# EAGLE library part MPU-9250 (library MPU-9250)
Check availability <https://pricing.snapeda.com/parts/MPU-9250/TDK%20InvenSense/view-part?ref=eda>
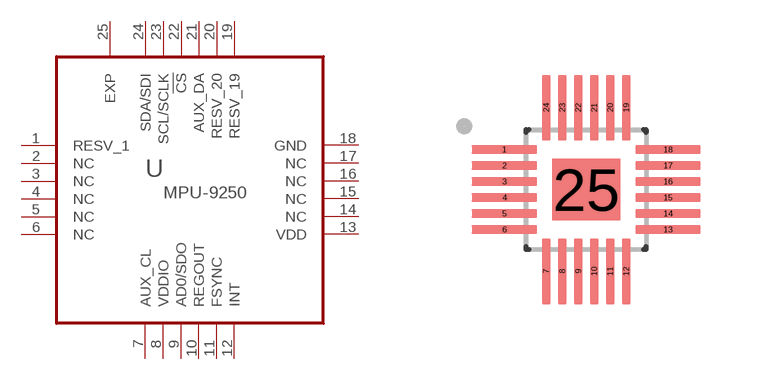
[diagram p0: symbol with the pads of QFN40P300X300X105-25N; footprint QFN40P300X300X105-25N]

Designator prefix U

## MPU-9250 (AVAILABILITY: In Stock; DESCRIPTION: Accelerometer, Gyroscope, Magnetometer, 9 Axis Sensor I²C, SPI Output; MF: TDK InvenSense; MP: MPU-9250; PACKAGE: TFQFN-24 TDK InvenSense; PRICE: None; PURCHASE-URL: https://pricing.snapeda.com/search/part/MPU-9250/?ref=eda)  [QFN40P300X300X105-25N]
1  RESV_1  pwr
2  NC  nc
3  NC  nc
4  NC  nc
5  NC  nc
6  NC  nc
7  AUX_CL  in
8  VDDIO  pwr
9  AD0/SDO  out
10  REGOUT  out
11  FSYNC  in
12  INT  out
13  VDD  pwr
14  NC  nc
15  NC  nc
16  NC  nc
17  NC  nc
18  GND  pwr
19  RESV_19  nc
20  RESV_20  pwr
21  AUX_DA  in
22  !CS  in
23  SCL/SCLK  in
24  SDA/SDI
25  EXP  pas

## Footprint QFN40P300X300X105-25N (pad centres in mm)
smd 1.64 x 0.22: 1 -2.045,1; 2 -2.045,0.6; 3 -2.045,0.2; 4 -2.045,-0.2; 5 -2.045,-0.6; 6 -2.045,-1; 13 2.045,-1; 14 2.045,-0.6; 15 2.045,-0.2; 16 2.045,0.2; 17 2.045,0.6; 18 2.045,1
smd 0.22 x 1.64: 7 -1,-2.045; 8 -0.6,-2.045; 9 -0.2,-2.045; 10 0.2,-2.045; 11 0.6,-2.045; 12 1,-2.045; 19 1,2.045; 20 0.6,2.045; 21 0.2,2.045; 22 -0.2,2.045; 23 -0.6,2.045; 24 -1,2.045
smd 1.7 x 1.54: 25 0,0